# Altium footprint library TEXASINSTRUMENTS_PKG_DCY.PcbLib: 1 footprints
Each footprint in its own frame and in the unit in brackets; x right, y up, seen from the top. Pads: shape width x height; smd on the part's side, far side on the other; paste and mask are expansions set on the pad; w line width, h text height; cw(c..) or ccw(c..) is an arc to the next point about the centre after c.
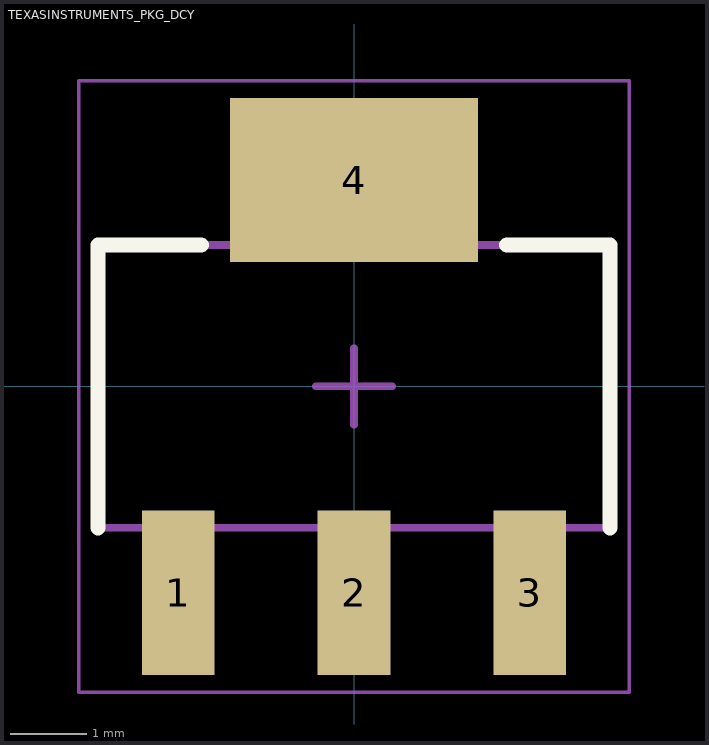
[diagram p0: the footprint, top view; thin cyan lines are the x and y axes]

## TEXASINSTRUMENTS_PKG_DCY [mm]
height 1.8
pads (4):
  rect 0.95x2.15 smd: 1(-2.3,-2.7) 2(0,-2.7) 3(2.3,-2.7)
  rect 3.25x2.15 smd: 4(0,2.7)
Top Overlay:
  lines w0.2: -3.35,-1.85 -3.35,1.85 -2,1.85 ; 2,1.85 3.35,1.85 3.35,-1.85
Mechanical 13:
  lines w0.1: -3.35,-1.85 3.35,-1.85 3.35,1.85 -3.35,1.85 -3.35,-1.85
Mechanical 15:
  lines w0.05: -3.6,-4 3.6,-4 3.6,4 -3.6,4 -3.6,-4
  lines w0.1: -0.5,0 0.5,0 ; 0,-0.5 0,0.5
3D body: height 1.8, standoff 0, extent -3.35,-1.85 3.35,1.85